# Altium schematic symbol library LM317.SchLib: 1 symbol
Pins are listed as number, name and electrical type; pins without a type are passive.

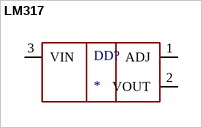
[diagram p0: symbol LM317]

## LM317
designator DD?
footprint TO-220
pins: 1 ADJ, 2 VOUT, 3 VIN